# Altium schematic symbol library yu0316-NSC_LDO.SchLib: 2590 symbols (part 19 of 64)
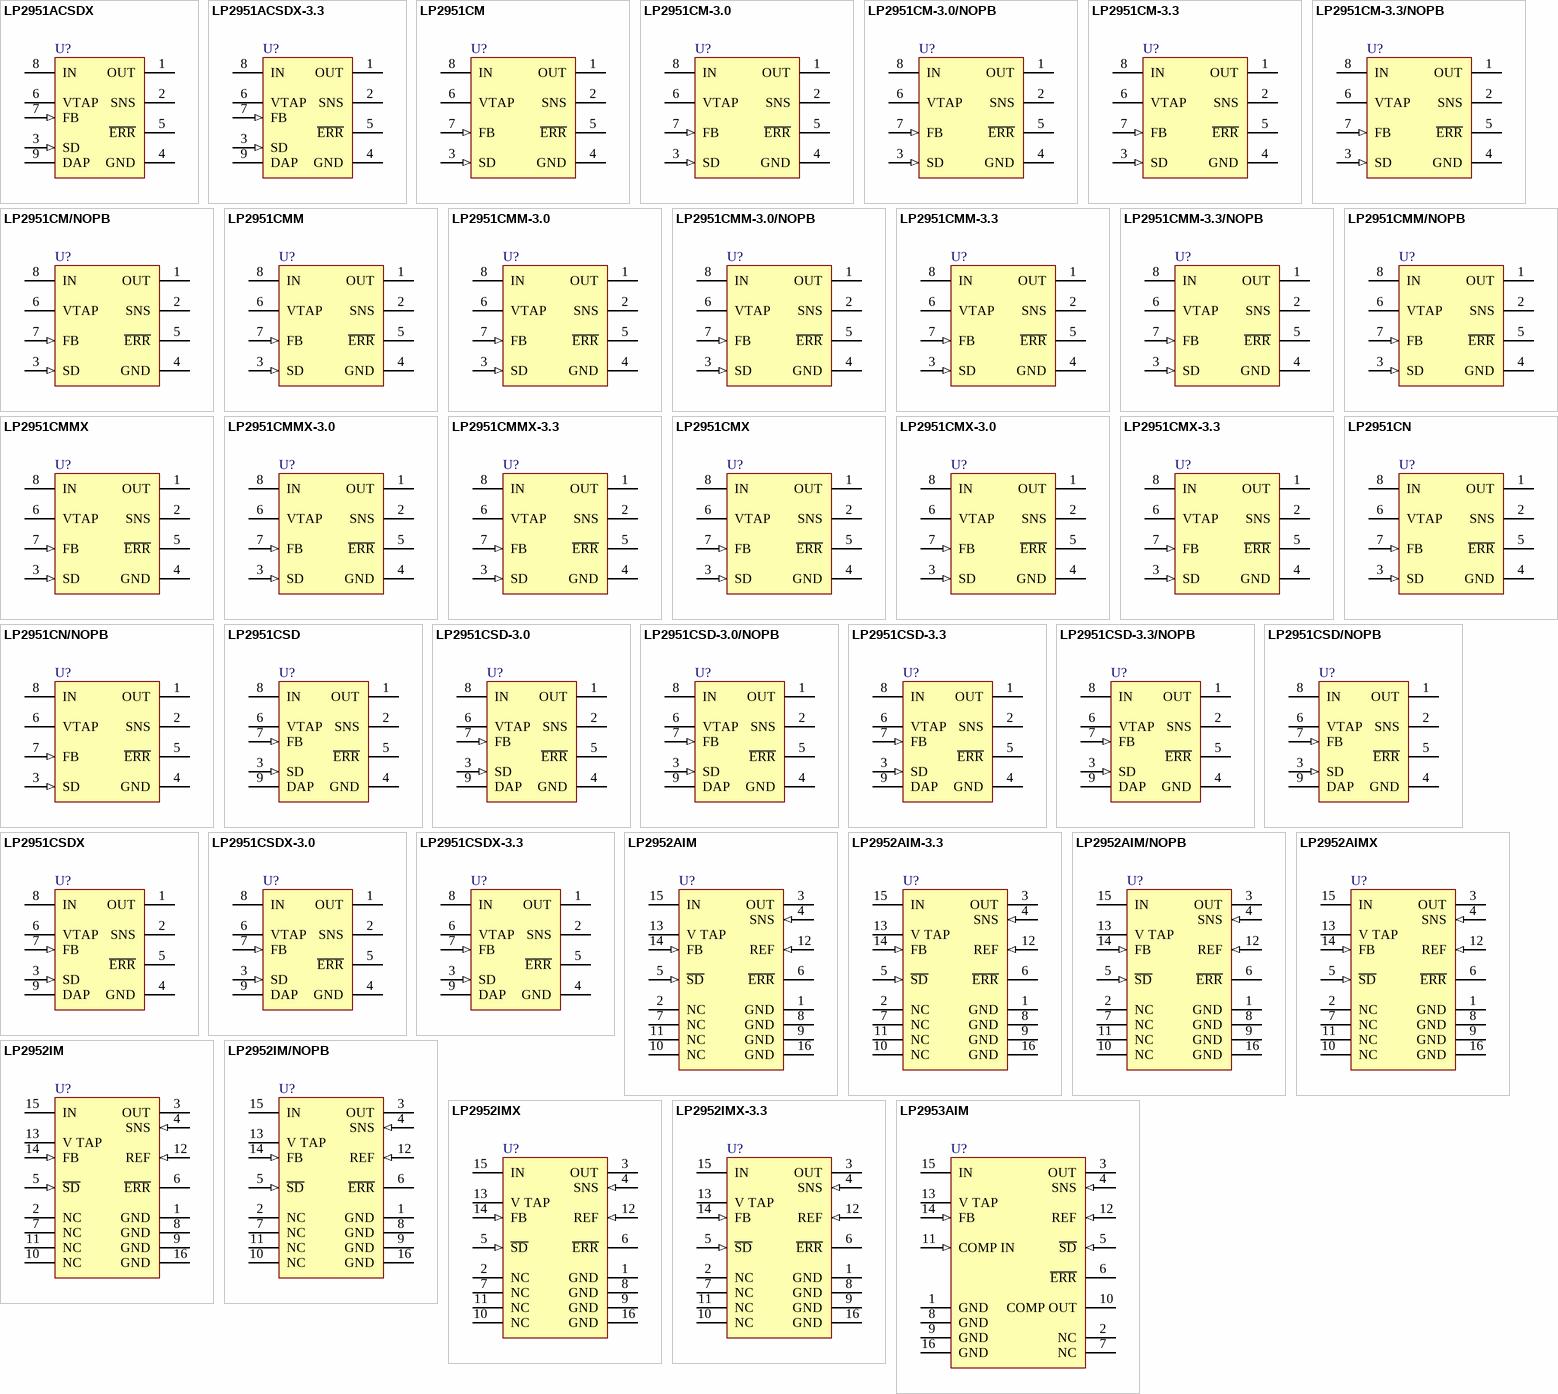
[diagram p83: symbols LP2951ACSDX to LP2953AIM]

## LP2951CN
designator U?
Series of Adjustable Micropower Voltage Regulators, 8-pin MDIP; PartNumber: LP2951CN; Manufacturer: National Semiconductor; PackageTopMarking: NSUZXYTTE#*LP*2951CN; PowerWise: N; CompType: LDO IC; Published: 4-Dec-2008; LatestRevisionDate: 07-Sep-2009; LatestRevisionNote: Bar removed from pin 3; DatasheetVersion: Jun-2009; PackageVersion: revG, May-2006; PackageReference: N08E; Publisher: Altium Limited; PackageDescription: MDIP, .365 x .250 x .130in, 8 Lead, .100in Pitch; Supplier 1: Farnell; Supplier Part Number 1: 9489320; RoHS: N; PinCount: 8; Code_JEDEC: MS-001-BA; ComponentLink1Description: LP2951 Datasheet; ComponentLink1URL: http://www.national.com/ds/LP/LP2951.pdf; ComponentLink2Description: LP2951 Web Page; ComponentLink2URL: http://www.national.com/pf/LP/LP2951.html; ComponentLink3Description: N08E Package Page; ComponentLink3URL: http://www.national.com/packaging/folders/n08e.html
footprint N08E (DIP, 8-Leads, Row Spacing 7.62mm, Pitch 2.54mm, Body 9.91x6.35mm)
pins: 1 OUT (power), 2 SNS, 3 SD (in), 4 GND (power), 5 ~{ERR} (oc), 6 VTAP, 7 FB (in), 8 IN (power)

## LP2951CN/NOPB
designator U?
Series of Adjustable Micropower Voltage Regulators, 8-pin MDIP, Pb-Free; PartNumber: LP2951CN/NOPB; Manufacturer: National Semiconductor; PackageTopMarking: NSUZXYTTE#*LP*2951CN; PowerWise: N; CompType: LDO IC; Published: 1-Mar-2010; DatasheetVersion: Jun-2009; PackageVersion: revG, May-2006; PackageReference: N08E; Publisher: Altium Limited; PackageDescription: MDIP, .365 x .250 x .130in, 8 Lead, .100in Pitch; Supplier 1: Digi-Key; Supplier Part Number 1: LP2951CN-ND; Supplier 2: Farnell; Supplier Part Number 2: 1179760; RoHS: Y; PinCount: 8; Code_JEDEC: MS-001-BA; ComponentLink1Description: LP2951 Datasheet; ComponentLink1URL: http://www.national.com/ds/LP/LP2951.pdf; ComponentLink2Description: LP2951 Web Page; ComponentLink2URL: http://www.national.com/pf/LP/LP2951.html; ComponentLink3Description: N08E Package Page; ComponentLink3URL: http://www.national.com/packaging/folders/n08e.html
footprint N08E (DIP, 8-Leads, Row Spacing 7.62mm, Pitch 2.54mm, Body 9.91x6.35mm)
pins: 1 OUT (power), 2 SNS, 3 SD (in), 4 GND (power), 5 ~{ERR} (oc), 6 VTAP, 7 FB (in), 8 IN (power)

## LP2951CSD
designator U?
Series of Adjustable Micropower Voltage Regulators, 8-pin LLP; PartNumber: LP2951CSD; Manufacturer: National Semiconductor; PackageTopMarking: NS*UZXYTT*2951ACB; PowerWise: N; CompType: LDO IC; Published: 4-Dec-2008; LatestRevisionDate: 07-Sep-2009; LatestRevisionNote: Bar removed from pin 3; DatasheetVersion: Jun-2009; PackageVersion: revA, Jun-2003; PackageReference: SDC08A; Publisher: Altium Limited; PackageDescription: LLP, Plastic, Dual, 4 x 4 x 0.8mm Body, 8 Lead, 0.8mm Pitch, No Pullback; Supplier 1: Farnell; Supplier Part Number 1: 1008042; RoHS: N; PinCount: 8; ComponentLink1Description: LP2951 Datasheet; ComponentLink1URL: http://www.national.com/ds/LP/LP2951.pdf; ComponentLink2Description: LP2951 Web Page; ComponentLink2URL: http://www.national.com/pf/LP/LP2951.html; ComponentLink3Description: SDC08A Package Page; ComponentLink3URL: http://www.national.com/packaging/folders/sdc08a.html
footprint SDC08A (SON, 8-Leads, Body 4x4mm, Pitch 0.8mm, NSC Recommended)
pins: 1 OUT (power), 2 SNS, 3 SD (in), 4 GND (power), 5 ~{ERR} (oc), 6 VTAP, 7 FB (in), 8 IN (power), 9 DAP (power)

## LP2951CSD-3.0
designator U?
Series of Adjustable Micropower Voltage Regulators, 8-pin LLP; PartNumber: LP2951CSD-3.0; Manufacturer: National Semiconductor; PackageTopMarking: NS*UZXYTT*51AC30B; PowerWise: N; CompType: LDO IC; Published: 4-Dec-2008; LatestRevisionDate: 07-Sep-2009; LatestRevisionNote: Bar removed from pin 3; DatasheetVersion: Jun-2009; PackageVersion: revA, Jun-2003; PackageReference: SDC08A; Publisher: Altium Limited; PackageDescription: LLP, Plastic, Dual, 4 x 4 x 0.8mm Body, 8 Lead, 0.8mm Pitch, No Pullback; RoHS: N; PinCount: 8; ComponentLink1Description: LP2951 Datasheet; ComponentLink1URL: http://www.national.com/ds/LP/LP2951.pdf; ComponentLink2Description: LP2951 Web Page; ComponentLink2URL: http://www.national.com/pf/LP/LP2951.html; ComponentLink3Description: SDC08A Package Page; ComponentLink3URL: http://www.national.com/packaging/folders/sdc08a.html
footprint SDC08A (SON, 8-Leads, Body 4x4mm, Pitch 0.8mm, NSC Recommended)
pins: 1 OUT (power), 2 SNS, 3 SD (in), 4 GND (power), 5 ~{ERR} (oc), 6 VTAP, 7 FB (in), 8 IN (power), 9 DAP (power)

## LP2951CSD-3.0/NOPB
designator U?
Series of Adjustable Micropower Voltage Regulators, 8-pin LLP, Pb-Free; PartNumber: LP2951CSD-3.0/NOPB; Manufacturer: National Semiconductor; PackageTopMarking: NS*UZXYTT*51AC30B; PowerWise: N; CompType: LDO IC; Published: 1-Mar-2010; DatasheetVersion: Jun-2009; PackageVersion: revA, Jun-2003; PackageReference: SDC08A; Publisher: Altium Limited; PackageDescription: LLP, Plastic, Dual, 4 x 4 x 0.8mm Body, 8 Lead, 0.8mm Pitch, No Pullback; Supplier 1: Digi-Key; Supplier Part Number 1: LP2951CSD-3.0-ND; RoHS: Y; PinCount: 8; ComponentLink1Description: LP2951 Datasheet; ComponentLink1URL: http://www.national.com/ds/LP/LP2951.pdf; ComponentLink2Description: LP2951 Web Page; ComponentLink2URL: http://www.national.com/pf/LP/LP2951.html; ComponentLink3Description: SDC08A Package Page; ComponentLink3URL: http://www.national.com/packaging/folders/sdc08a.html
footprint SDC08A (SON, 8-Leads, Body 4x4mm, Pitch 0.8mm, NSC Recommended)
pins: 1 OUT (power), 2 SNS, 3 SD (in), 4 GND (power), 5 ~{ERR} (oc), 6 VTAP, 7 FB (in), 8 IN (power), 9 DAP (power)

## LP2951CSD-3.3
designator U?
Series of Adjustable Micropower Voltage Regulators, 8-pin LLP; PartNumber: LP2951CSD-3.3; Manufacturer: National Semiconductor; PackageTopMarking: NS*UZXYTT*51AC33B; PowerWise: N; CompType: LDO IC; Published: 4-Dec-2008; LatestRevisionDate: 07-Sep-2009; LatestRevisionNote: Bar removed from pin 3; DatasheetVersion: Jun-2009; PackageVersion: revA, Jun-2003; PackageReference: SDC08A; Publisher: Altium Limited; PackageDescription: LLP, Plastic, Dual, 4 x 4 x 0.8mm Body, 8 Lead, 0.8mm Pitch, No Pullback; Supplier 1: Farnell; Supplier Part Number 1: 1008044; RoHS: N; PinCount: 8; ComponentLink1Description: LP2951 Datasheet; ComponentLink1URL: http://www.national.com/ds/LP/LP2951.pdf; ComponentLink2Description: LP2951 Web Page; ComponentLink2URL: http://www.national.com/pf/LP/LP2951.html; ComponentLink3Description: SDC08A Package Page; ComponentLink3URL: http://www.national.com/packaging/folders/sdc08a.html
footprint SDC08A (SON, 8-Leads, Body 4x4mm, Pitch 0.8mm, NSC Recommended)
pins: 1 OUT (power), 2 SNS, 3 SD (in), 4 GND (power), 5 ~{ERR} (oc), 6 VTAP, 7 FB (in), 8 IN (power), 9 DAP (power)

## LP2951CSD-3.3/NOPB
designator U?
Series of Adjustable Micropower Voltage Regulators, 8-pin LLP, Pb-Free; PartNumber: LP2951CSD-3.3/NOPB; Manufacturer: National Semiconductor; PackageTopMarking: NS*UZXYTT*51AC33B; PowerWise: N; CompType: LDO IC; Published: 1-Mar-2010; DatasheetVersion: Jun-2009; PackageVersion: revA, Jun-2003; PackageReference: SDC08A; Publisher: Altium Limited; PackageDescription: LLP, Plastic, Dual, 4 x 4 x 0.8mm Body, 8 Lead, 0.8mm Pitch, No Pullback; Supplier 1: Digi-Key; Supplier Part Number 1: LP2951CSD-3.3-ND; RoHS: Y; PinCount: 8; ComponentLink1Description: LP2951 Datasheet; ComponentLink1URL: http://www.national.com/ds/LP/LP2951.pdf; ComponentLink2Description: LP2951 Web Page; ComponentLink2URL: http://www.national.com/pf/LP/LP2951.html; ComponentLink3Description: SDC08A Package Page; ComponentLink3URL: http://www.national.com/packaging/folders/sdc08a.html
footprint SDC08A (SON, 8-Leads, Body 4x4mm, Pitch 0.8mm, NSC Recommended)
pins: 1 OUT (power), 2 SNS, 3 SD (in), 4 GND (power), 5 ~{ERR} (oc), 6 VTAP, 7 FB (in), 8 IN (power), 9 DAP (power)

## LP2951CSD/NOPB
designator U?
Series of Adjustable Micropower Voltage Regulators, 8-pin LLP, Pb-Free; PartNumber: LP2951CSD/NOPB; Manufacturer: National Semiconductor; PackageTopMarking: NS*UZXYTT*2951ACB; PowerWise: N; CompType: LDO IC; Published: 1-Mar-2010; DatasheetVersion: Jun-2009; PackageVersion: revA, Jun-2003; PackageReference: SDC08A; Publisher: Altium Limited; PackageDescription: LLP, Plastic, Dual, 4 x 4 x 0.8mm Body, 8 Lead, 0.8mm Pitch, No Pullback; Supplier 1: Digi-Key; Supplier Part Number 1: LP2951CSD-ND; RoHS: Y; PinCount: 8; ComponentLink1Description: LP2951 Datasheet; ComponentLink1URL: http://www.national.com/ds/LP/LP2951.pdf; ComponentLink2Description: LP2951 Web Page; ComponentLink2URL: http://www.national.com/pf/LP/LP2951.html; ComponentLink3Description: SDC08A Package Page; ComponentLink3URL: http://www.national.com/packaging/folders/sdc08a.html
footprint SDC08A (SON, 8-Leads, Body 4x4mm, Pitch 0.8mm, NSC Recommended)
pins: 1 OUT (power), 2 SNS, 3 SD (in), 4 GND (power), 5 ~{ERR} (oc), 6 VTAP, 7 FB (in), 8 IN (power), 9 DAP (power)

## LP2951CSDX
designator U?
Series of Adjustable Micropower Voltage Regulators, 8-pin LLP; PartNumber: LP2951CSDX; Manufacturer: National Semiconductor; PackageTopMarking: NS*UZXYTT*2951ACB; PowerWise: N; CompType: LDO IC; Published: 1-Mar-2010; DatasheetVersion: Jun-2009; PackageVersion: revA, Jun-2003; PackageReference: SDC08A; Publisher: Altium Limited; PackageDescription: LLP, Plastic, Dual, 4 x 4 x 0.8mm Body, 8 Lead, 0.8mm Pitch, No Pullback; RoHS: N; PinCount: 8; ComponentLink1Description: LP2951 Datasheet; ComponentLink1URL: http://www.national.com/ds/LP/LP2951.pdf; ComponentLink2Description: LP2951 Web Page; ComponentLink2URL: http://www.national.com/pf/LP/LP2951.html; ComponentLink3Description: SDC08A Package Page; ComponentLink3URL: http://www.national.com/packaging/folders/sdc08a.html
footprint SDC08A (SON, 8-Leads, Body 4x4mm, Pitch 0.8mm, NSC Recommended)
pins: 1 OUT (power), 2 SNS, 3 SD (in), 4 GND (power), 5 ~{ERR} (oc), 6 VTAP, 7 FB (in), 8 IN (power), 9 DAP (power)

## LP2951CSDX-3.0
designator U?
Series of Adjustable Micropower Voltage Regulators, 8-pin LLP; PartNumber: LP2951CSDX-3.0; Manufacturer: National Semiconductor; PackageTopMarking: NS*UZXYTT*51AC30B; PowerWise: N; CompType: LDO IC; Published: 1-Mar-2010; DatasheetVersion: Jun-2009; PackageVersion: revA, Jun-2003; PackageReference: SDC08A; Publisher: Altium Limited; PackageDescription: LLP, Plastic, Dual, 4 x 4 x 0.8mm Body, 8 Lead, 0.8mm Pitch, No Pullback; RoHS: N; PinCount: 8; ComponentLink1Description: LP2951 Datasheet; ComponentLink1URL: http://www.national.com/ds/LP/LP2951.pdf; ComponentLink2Description: LP2951 Web Page; ComponentLink2URL: http://www.national.com/pf/LP/LP2951.html; ComponentLink3Description: SDC08A Package Page; ComponentLink3URL: http://www.national.com/packaging/folders/sdc08a.html
footprint SDC08A (SON, 8-Leads, Body 4x4mm, Pitch 0.8mm, NSC Recommended)
pins: 1 OUT (power), 2 SNS, 3 SD (in), 4 GND (power), 5 ~{ERR} (oc), 6 VTAP, 7 FB (in), 8 IN (power), 9 DAP (power)

## LP2951CSDX-3.3
designator U?
Series of Adjustable Micropower Voltage Regulators, 8-pin LLP; PartNumber: LP2951CSDX-3.3; Manufacturer: National Semiconductor; PackageTopMarking: NS*UZXYTT*51AC33B; PowerWise: N; CompType: LDO IC; Published: 1-Mar-2010; DatasheetVersion: Jun-2009; PackageVersion: revA, Jun-2003; PackageReference: SDC08A; Publisher: Altium Limited; PackageDescription: LLP, Plastic, Dual, 4 x 4 x 0.8mm Body, 8 Lead, 0.8mm Pitch, No Pullback; RoHS: N; PinCount: 8; ComponentLink1Description: LP2951 Datasheet; ComponentLink1URL: http://www.national.com/ds/LP/LP2951.pdf; ComponentLink2Description: LP2951 Web Page; ComponentLink2URL: http://www.national.com/pf/LP/LP2951.html; ComponentLink3Description: SDC08A Package Page; ComponentLink3URL: http://www.national.com/packaging/folders/sdc08a.html
footprint SDC08A (SON, 8-Leads, Body 4x4mm, Pitch 0.8mm, NSC Recommended)
pins: 1 OUT (power), 2 SNS, 3 SD (in), 4 GND (power), 5 ~{ERR} (oc), 6 VTAP, 7 FB (in), 8 IN (power), 9 DAP (power)

## LP2952AIM
designator U?
Adjustable Micropower Low-Dropout Voltage Regulator, 16-pin Narrow SOIC; PartNumber: LP2952AIM; Manufacturer: National Semiconductor; PackageTopMarking: NSUZXYTTE#*LP2952AIM; PowerWise: N; CompType: LDO IC; Published: 4-Dec-2008; DatasheetVersion: Mar-2005; PackageVersion: revJ, Aug-1995; PackageReference: M16A; Publisher: Altium Limited; PackageDescription: Molded Package, SO, .150in Wide, 16 Lead; Supplier 1: Farnell; Supplier Part Number 1: 955840; RoHS: N; PinCount: 16; Code_JEDEC: MS-012-AC; Code_IPC: SOIC127P600-16; ComponentLink1Description: LP2952A Datasheet; ComponentLink1URL: http://www.national.com/ds/LP/LP2952.pdf; ComponentLink2Description: LP2952A Web Page; ComponentLink2URL: http://www.national.com/pf/LP/LP2952A.html; ComponentLink3Description: M16A Package Page; ComponentLink3URL: http://www.national.com/packaging/folders/m16a.html
footprint M16A_N (SOIC, 16-Leads, Body 9.9x3.9mm, Pitch 1.27mm, IPC Medium Density)
footprint M16A_L (SOIC, 16-Leads, Body 9.9x3.9mm, Pitch 1.27mm, IPC High Density)
footprint M16A_M (SOIC, 16-Leads, Body 9.9x3.9mm, Pitch 1.27mm, IPC Low Density)
pins: 1 GND (power), 2 NC, 3 OUT (power), 4 SNS (in), 5 ~{SD} (in), 6 ~{ERR} (oc), 7 NC, 8 GND (power), 9 GND (power), 10 NC, 11 NC, 12 REF (in), 13 V TAP, 14 FB (in), 15 IN (power), 16 GND (power)

## LP2952AIM-3.3
designator U?
Adjustable Micropower Low-Dropout Voltage Regulator, 16-pin Narrow SOIC; PartNumber: LP2952AIM-3.3; Manufacturer: National Semiconductor; PackageTopMarking: NSUZXYTTE#*LP2952AIM*-3.3; PowerWise: N; CompType: LDO IC; Published: 4-Dec-2008; DatasheetVersion: Mar-2005; PackageVersion: revJ, Aug-1995; PackageReference: M16A; Publisher: Altium Limited; PackageDescription: Molded Package, SO, .150in Wide, 16 Lead; Supplier 1: Farnell; Supplier Part Number 1: 955851; RoHS: N; PinCount: 16; Code_JEDEC: MS-012-AC; Code_IPC: SOIC127P600-16; ComponentLink1Description: LP2952A Datasheet; ComponentLink1URL: http://www.national.com/ds/LP/LP2952.pdf; ComponentLink2Description: LP2952A Web Page; ComponentLink2URL: http://www.national.com/pf/LP/LP2952A.html; ComponentLink3Description: M16A Package Page; ComponentLink3URL: http://www.national.com/packaging/folders/m16a.html
footprint M16A_N (SOIC, 16-Leads, Body 9.9x3.9mm, Pitch 1.27mm, IPC Medium Density)
footprint M16A_L (SOIC, 16-Leads, Body 9.9x3.9mm, Pitch 1.27mm, IPC High Density)
footprint M16A_M (SOIC, 16-Leads, Body 9.9x3.9mm, Pitch 1.27mm, IPC Low Density)
pins: 1 GND (power), 2 NC, 3 OUT (power), 4 SNS (in), 5 ~{SD} (in), 6 ~{ERR} (oc), 7 NC, 8 GND (power), 9 GND (power), 10 NC, 11 NC, 12 REF (in), 13 V TAP, 14 FB (in), 15 IN (power), 16 GND (power)

## LP2952AIM/NOPB
designator U?
Adjustable Micropower Low-Dropout Voltage Regulator, 16-pin Narrow SOIC, Pb-Free; PartNumber: LP2952AIM/NOPB; Manufacturer: National Semiconductor; PackageTopMarking: NSUZXYTTE#*LP2952AIM; PowerWise: N; CompType: LDO IC; Published: 1-Mar-2010; DatasheetVersion: Mar-2005; PackageVersion: revJ, Aug-1995; PackageReference: M16A; Publisher: Altium Limited; PackageDescription: Molded Package, SO, .150in Wide, 16 Lead; Supplier 1: Digi-Key; Supplier Part Number 1: LP2952AIM-ND; RoHS: Y; PinCount: 16; Code_JEDEC: MS-012-AC; Code_IPC: SOIC127P600-16; ComponentLink1Description: LP2952A Datasheet; ComponentLink1URL: http://www.national.com/ds/LP/LP2952.pdf; ComponentLink2Description: LP2952A Web Page; ComponentLink2URL: http://www.national.com/pf/LP/LP2952A.html; ComponentLink3Description: M16A Package Page; ComponentLink3URL: http://www.national.com/packaging/folders/m16a.html
footprint M16A_N (SOIC, 16-Leads, Body 9.9x3.9mm, Pitch 1.27mm, IPC Medium Density)
footprint M16A_L (SOIC, 16-Leads, Body 9.9x3.9mm, Pitch 1.27mm, IPC High Density)
footprint M16A_M (SOIC, 16-Leads, Body 9.9x3.9mm, Pitch 1.27mm, IPC Low Density)
pins: 1 GND (power), 2 NC, 3 OUT (power), 4 SNS (in), 5 ~{SD} (in), 6 ~{ERR} (oc), 7 NC, 8 GND (power), 9 GND (power), 10 NC, 11 NC, 12 REF (in), 13 V TAP, 14 FB (in), 15 IN (power), 16 GND (power)

## LP2952AIMX
designator U?
Adjustable Micropower Low-Dropout Voltage Regulator, 16-pin Narrow SOIC; PartNumber: LP2952AIMX; Manufacturer: National Semiconductor; PackageTopMarking: NSUZXYTTE#*LP2952AIM; PowerWise: N; CompType: LDO IC; Published: 1-Mar-2010; DatasheetVersion: Mar-2005; PackageVersion: revJ, Aug-1995; PackageReference: M16A; Publisher: Altium Limited; PackageDescription: Molded Package, SO, .150in Wide, 16 Lead; RoHS: N; PinCount: 16; Code_JEDEC: MS-012-AC; Code_IPC: SOIC127P600-16; ComponentLink1Description: LP2952A Datasheet; ComponentLink1URL: http://www.national.com/ds/LP/LP2952.pdf; ComponentLink2Description: LP2952A Web Page; ComponentLink2URL: http://www.national.com/pf/LP/LP2952A.html; ComponentLink3Description: M16A Package Page; ComponentLink3URL: http://www.national.com/packaging/folders/m16a.html
footprint M16A_N (SOIC, 16-Leads, Body 9.9x3.9mm, Pitch 1.27mm, IPC Medium Density)
footprint M16A_L (SOIC, 16-Leads, Body 9.9x3.9mm, Pitch 1.27mm, IPC High Density)
footprint M16A_M (SOIC, 16-Leads, Body 9.9x3.9mm, Pitch 1.27mm, IPC Low Density)
pins: 1 GND (power), 2 NC, 3 OUT (power), 4 SNS (in), 5 ~{SD} (in), 6 ~{ERR} (oc), 7 NC, 8 GND (power), 9 GND (power), 10 NC, 11 NC, 12 REF (in), 13 V TAP, 14 FB (in), 15 IN (power), 16 GND (power)

## LP2952IM
designator U?
Adjustable Micropower Low-Dropout Voltage Regulator, 16-pin Narrow SOIC; PartNumber: LP2952IM; Manufacturer: National Semiconductor; PackageTopMarking: NSUZXYTTE#*LP2952IM; PowerWise: N; CompType: LDO IC; Published: 4-Dec-2008; DatasheetVersion: Mar-2005; PackageVersion: revJ, Aug-1995; PackageReference: M16A; Publisher: Altium Limited; PackageDescription: Molded Package, SO, .150in Wide, 16 Lead; Supplier 1: Farnell; Supplier Part Number 1: 1215215; RoHS: N; PinCount: 16; Code_JEDEC: MS-012-AC; Code_IPC: SOIC127P600-16; ComponentLink1Description: LP2952 Datasheet; ComponentLink1URL: http://www.national.com/ds/LP/LP2952.pdf; ComponentLink2Description: LP2952 Web Page; ComponentLink2URL: http://www.national.com/pf/LP/LP2952.html; ComponentLink3Description: M16A Package Page; ComponentLink3URL: http://www.national.com/packaging/folders/m16a.html
footprint M16A_N (SOIC, 16-Leads, Body 9.9x3.9mm, Pitch 1.27mm, IPC Medium Density)
footprint M16A_L (SOIC, 16-Leads, Body 9.9x3.9mm, Pitch 1.27mm, IPC High Density)
footprint M16A_M (SOIC, 16-Leads, Body 9.9x3.9mm, Pitch 1.27mm, IPC Low Density)
pins: 1 GND (power), 2 NC, 3 OUT (power), 4 SNS (in), 5 ~{SD} (in), 6 ~{ERR} (oc), 7 NC, 8 GND (power), 9 GND (power), 10 NC, 11 NC, 12 REF (in), 13 V TAP, 14 FB (in), 15 IN (power), 16 GND (power)

## LP2952IM/NOPB
designator U?
Adjustable Micropower Low-Dropout Voltage Regulator, 16-pin Narrow SOIC, Pb-Free; PartNumber: LP2952IM/NOPB; Manufacturer: National Semiconductor; PackageTopMarking: NSUZXYTTE#*LP2952IM; PowerWise: N; CompType: LDO IC; Published: 1-Mar-2010; DatasheetVersion: Mar-2005; PackageVersion: revJ, Aug-1995; PackageReference: M16A; Publisher: Altium Limited; PackageDescription: Molded Package, SO, .150in Wide, 16 Lead; Supplier 1: Digi-Key; Supplier Part Number 1: LP2952IM-ND; Supplier 2: Farnell; Supplier Part Number 2: 1191129; RoHS: Y; PinCount: 16; Code_JEDEC: MS-012-AC; Code_IPC: SOIC127P600-16; ComponentLink1Description: LP2952 Datasheet; ComponentLink1URL: http://www.national.com/ds/LP/LP2952.pdf; ComponentLink2Description: LP2952 Web Page; ComponentLink2URL: http://www.national.com/pf/LP/LP2952.html; ComponentLink3Description: M16A Package Page; ComponentLink3URL: http://www.national.com/packaging/folders/m16a.html
footprint M16A_N (SOIC, 16-Leads, Body 9.9x3.9mm, Pitch 1.27mm, IPC Medium Density)
footprint M16A_L (SOIC, 16-Leads, Body 9.9x3.9mm, Pitch 1.27mm, IPC High Density)
footprint M16A_M (SOIC, 16-Leads, Body 9.9x3.9mm, Pitch 1.27mm, IPC Low Density)
pins: 1 GND (power), 2 NC, 3 OUT (power), 4 SNS (in), 5 ~{SD} (in), 6 ~{ERR} (oc), 7 NC, 8 GND (power), 9 GND (power), 10 NC, 11 NC, 12 REF (in), 13 V TAP, 14 FB (in), 15 IN (power), 16 GND (power)

## LP2952IMX
designator U?
Adjustable Micropower Low-Dropout Voltage Regulator, 16-pin Narrow SOIC; PartNumber: LP2952IMX; Manufacturer: National Semiconductor; PackageTopMarking: NSUZXYTTE#*LP2952IM; PowerWise: N; CompType: LDO IC; Published: 1-Mar-2010; DatasheetVersion: Mar-2005; PackageVersion: revJ, Aug-1995; PackageReference: M16A; Publisher: Altium Limited; PackageDescription: Molded Package, SO, .150in Wide, 16 Lead; RoHS: N; PinCount: 16; Code_JEDEC: MS-012-AC; Code_IPC: SOIC127P600-16; ComponentLink1Description: LP2952 Datasheet; ComponentLink1URL: http://www.national.com/ds/LP/LP2952.pdf; ComponentLink2Description: LP2952 Web Page; ComponentLink2URL: http://www.national.com/pf/LP/LP2952.html; ComponentLink3Description: M16A Package Page; ComponentLink3URL: http://www.national.com/packaging/folders/m16a.html
footprint M16A_N (SOIC, 16-Leads, Body 9.9x3.9mm, Pitch 1.27mm, IPC Medium Density)
footprint M16A_L (SOIC, 16-Leads, Body 9.9x3.9mm, Pitch 1.27mm, IPC High Density)
footprint M16A_M (SOIC, 16-Leads, Body 9.9x3.9mm, Pitch 1.27mm, IPC Low Density)
pins: 1 GND (power), 2 NC, 3 OUT (power), 4 SNS (in), 5 ~{SD} (in), 6 ~{ERR} (oc), 7 NC, 8 GND (power), 9 GND (power), 10 NC, 11 NC, 12 REF (in), 13 V TAP, 14 FB (in), 15 IN (power), 16 GND (power)

## LP2952IMX-3.3
designator U?
Adjustable Micropower Low-Dropout Voltage Regulator, 16-pin Narrow SOIC; PartNumber: LP2952IMX-3.3; Manufacturer: National Semiconductor; PackageTopMarking: NSUZXYTTE#*LP2952IM*-3.3; PowerWise: N; CompType: LDO IC; Published: 1-Mar-2010; DatasheetVersion: Mar-2005; PackageVersion: revJ, Aug-1995; PackageReference: M16A; Publisher: Altium Limited; PackageDescription: Molded Package, SO, .150in Wide, 16 Lead; RoHS: N; PinCount: 16; Code_JEDEC: MS-012-AC; Code_IPC: SOIC127P600-16; ComponentLink1Description: LP2952 Datasheet; ComponentLink1URL: http://www.national.com/ds/LP/LP2952.pdf; ComponentLink2Description: LP2952 Web Page; ComponentLink2URL: http://www.national.com/pf/LP/LP2952.html; ComponentLink3Description: M16A Package Page; ComponentLink3URL: http://www.national.com/packaging/folders/m16a.html
footprint M16A_N (SOIC, 16-Leads, Body 9.9x3.9mm, Pitch 1.27mm, IPC Medium Density)
footprint M16A_L (SOIC, 16-Leads, Body 9.9x3.9mm, Pitch 1.27mm, IPC High Density)
footprint M16A_M (SOIC, 16-Leads, Body 9.9x3.9mm, Pitch 1.27mm, IPC Low Density)
pins: 1 GND (power), 2 NC, 3 OUT (power), 4 SNS (in), 5 ~{SD} (in), 6 ~{ERR} (oc), 7 NC, 8 GND (power), 9 GND (power), 10 NC, 11 NC, 12 REF (in), 13 V TAP, 14 FB (in), 15 IN (power), 16 GND (power)

## LP2953AIM
designator U?
Adjustable Micropower Low-Dropout Voltage Regulator, 16-pin Narrow SOIC; PartNumber: LP2953AIM; Manufacturer: National Semiconductor; PackageTopMarking: NSUZXYTTE#*LP2953AIM; PowerWise: N; CompType: LDO IC; Published: 4-Dec-2008; DatasheetVersion: Mar-2005; PackageVersion: revJ, Aug-1995; PackageReference: M16A; Publisher: Altium Limited; PackageDescription: Molded Package, SO, .150in Wide, 16 Lead; RoHS: N; PinCount: 16; Code_JEDEC: MS-012-AC; Code_IPC: SOIC127P600-16; ComponentLink1Description: LP2953A Datasheet; ComponentLink1URL: http://www.national.com/ds/LP/LP2953.pdf; ComponentLink2Description: LP2953A Web Page; ComponentLink2URL: http://www.national.com/pf/LP/LP2953A.html; ComponentLink3Description: M16A Package Page; ComponentLink3URL: http://www.national.com/packaging/folders/m16a.html
footprint M16A_N (SOIC, 16-Leads, Body 9.9x3.9mm, Pitch 1.27mm, IPC Medium Density)
footprint M16A_L (SOIC, 16-Leads, Body 9.9x3.9mm, Pitch 1.27mm, IPC High Density)
footprint M16A_M (SOIC, 16-Leads, Body 9.9x3.9mm, Pitch 1.27mm, IPC Low Density)
pins: 1 GND (power), 2 NC, 3 OUT (power), 4 SNS (in), 5 ~{SD} (in), 6 ~{ERR} (oc), 7 NC, 8 GND (power), 9 GND, 10 COMP OUT (oc), 11 COMP IN (in), 12 REF (in), 13 V TAP, 14 FB (in), 15 IN (power), 16 GND (power)

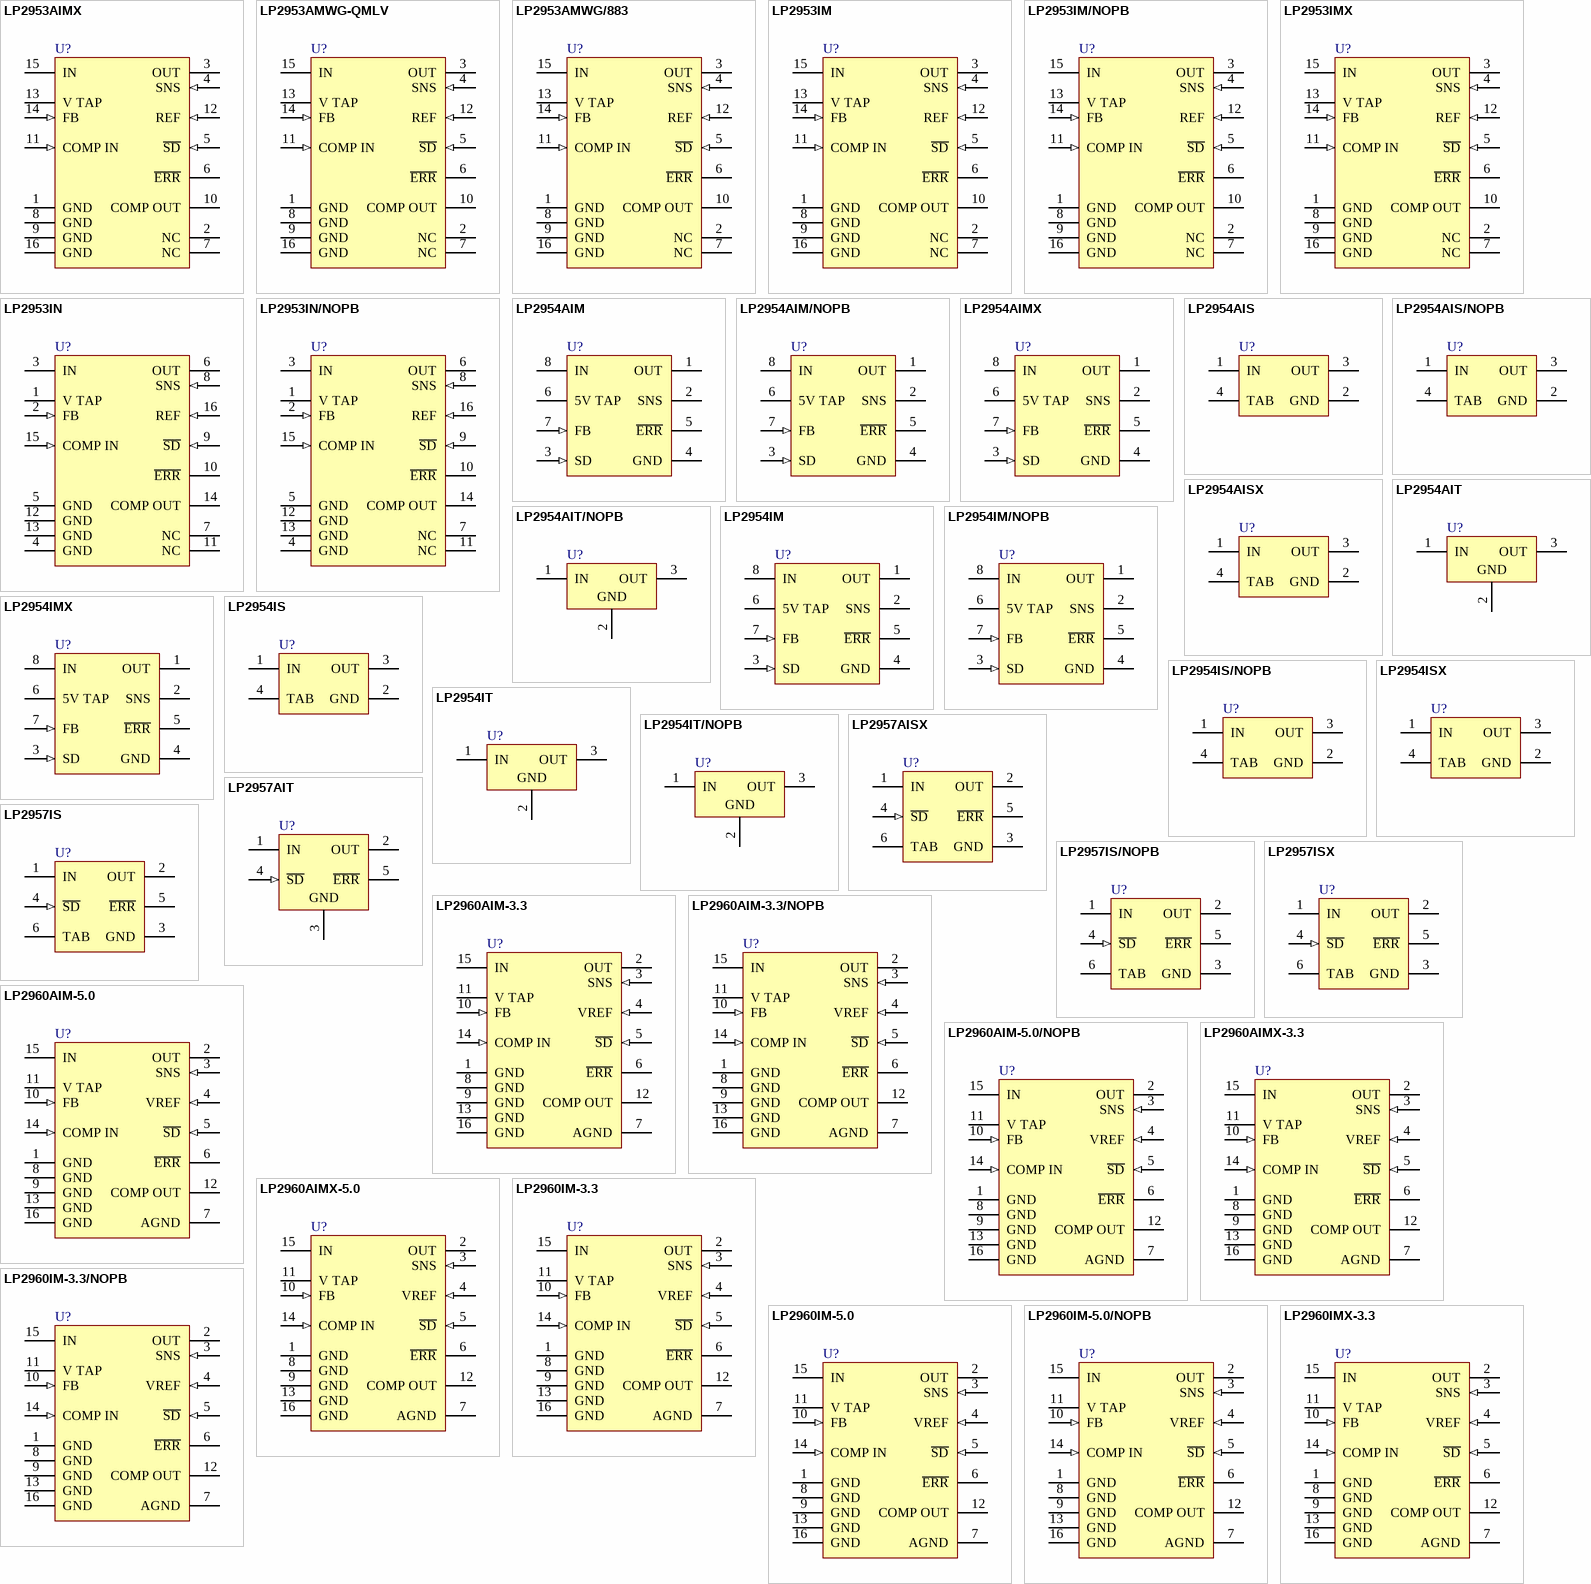
[diagram p20: symbols LP2953AIMX to LP2960IMX-3.3]

## LP2953AIMX
designator U?
Adjustable Micropower Low-Dropout Voltage Regulator, 16-pin Narrow SOIC; PartNumber: LP2953AIMX; Manufacturer: National Semiconductor; PackageTopMarking: NSUZXYTTE#*LP2953AIM; PowerWise: N; CompType: LDO IC; Published: 1-Mar-2010; DatasheetVersion: Mar-2005; PackageVersion: revJ, Aug-1995; PackageReference: M16A; Publisher: Altium Limited; PackageDescription: Molded Package, SO, .150in Wide, 16 Lead; RoHS: N; PinCount: 16; Code_JEDEC: MS-012-AC; Code_IPC: SOIC127P600-16; ComponentLink1Description: LP2953A Datasheet; ComponentLink1URL: http://www.national.com/ds/LP/LP2953.pdf; ComponentLink2Description: LP2953A Web Page; ComponentLink2URL: http://www.national.com/pf/LP/LP2953A.html; ComponentLink3Description: M16A Package Page; ComponentLink3URL: http://www.national.com/packaging/folders/m16a.html
footprint M16A_N (SOIC, 16-Leads, Body 9.9x3.9mm, Pitch 1.27mm, IPC Medium Density)
footprint M16A_L (SOIC, 16-Leads, Body 9.9x3.9mm, Pitch 1.27mm, IPC High Density)
footprint M16A_M (SOIC, 16-Leads, Body 9.9x3.9mm, Pitch 1.27mm, IPC Low Density)
pins: 1 GND (power), 2 NC, 3 OUT (power), 4 SNS (in), 5 ~{SD} (in), 6 ~{ERR} (oc), 7 NC, 8 GND (power), 9 GND, 10 COMP OUT (oc), 11 COMP IN (in), 12 REF (in), 13 V TAP, 14 FB (in), 15 IN (power), 16 GND (power)

## LP2953AMWG-QMLV
designator U?
Adjustable Micropower Low-Dropout Voltage Regulator, 16-pin CerPACK; PartNumber: LP2953AMWG-QMLV; Manufacturer: National Semiconductor; PackageTopMarking: NSZSSXXYYA*LP2953AMWG-*QV Q 5962-*9233601VXA; PowerWise: N; CompType: LDO IC; High-Reliability: Y; Published: 4-Dec-2008; DatasheetVersion: Mar-2005; PackageVersion: revE, Jul-2007; PackageReference: WG16A; Publisher: Altium Limited; PackageDescription: Cerpack, .390 x .250 x .070in, 16 Lead, .050in Pitch, Gull Wing; RoHS: N; PinCount: 16; ComponentLink1Description: LP2953A Datasheet; ComponentLink1URL: http://www.national.com/ds/LP/LP2953A.pdf; ComponentLink2Description: LP2953A Web Page; ComponentLink2URL: http://www.national.com/pf/LP/LP2953A.html; ComponentLink3Description: WG16A Package Page; ComponentLink3URL: http://www.national.com/packaging/folders/wg16a.html
footprint WG16A_N (CERPACK, 16-Leads, Body 9.9x6.5mm, Pitch 1.27mm, IPC Medium Density)
footprint WG16A_L (CERPACK, 16-Leads, Body 9.9x6.5mm, Pitch 1.27mm, IPC High Density)
footprint WG16A_M (CERPACK, 16-Leads, Body 9.9x6.5mm, Pitch 1.27mm, IPC Low Density)
pins: 1 GND (power), 2 NC, 3 OUT (power), 4 SNS (in), 5 ~{SD} (in), 6 ~{ERR} (oc), 7 NC, 8 GND (power), 9 GND, 10 COMP OUT (oc), 11 COMP IN (in), 12 REF (in), 13 V TAP, 14 FB (in), 15 IN (power), 16 GND (power)

## LP2953AMWG/883
designator U?
Adjustable Micropower Low-Dropout Voltage Regulator, 16-pin CerPACK; PartNumber: LP2953AMWG/883; Manufacturer: National Semiconductor; PackageTopMarking: NSZSSXXYYA*5962-9233601*QXA Q LP2953*AMWG/883; PowerWise: N; CompType: LDO IC; High-Reliability: Y; Published: 4-Dec-2008; DatasheetVersion: Mar-2005; PackageVersion: revE, Jul-2007; PackageReference: WG16A; Publisher: Altium Limited; PackageDescription: Cerpack, .390 x .250 x .070in, 16 Lead, .050in Pitch, Gull Wing; RoHS: N; PinCount: 16; ComponentLink1Description: LP2953A Datasheet; ComponentLink1URL: http://www.national.com/ds/LP/LP2953A.pdf; ComponentLink2Description: LP2953A Web Page; ComponentLink2URL: http://www.national.com/pf/LP/LP2953A.html; ComponentLink3Description: WG16A Package Page; ComponentLink3URL: http://www.national.com/packaging/folders/wg16a.html
footprint WG16A_N (CERPACK, 16-Leads, Body 9.9x6.5mm, Pitch 1.27mm, IPC Medium Density)
footprint WG16A_L (CERPACK, 16-Leads, Body 9.9x6.5mm, Pitch 1.27mm, IPC High Density)
footprint WG16A_M (CERPACK, 16-Leads, Body 9.9x6.5mm, Pitch 1.27mm, IPC Low Density)
pins: 1 GND (power), 2 NC, 3 OUT (power), 4 SNS (in), 5 ~{SD} (in), 6 ~{ERR} (oc), 7 NC, 8 GND (power), 9 GND, 10 COMP OUT (oc), 11 COMP IN (in), 12 REF (in), 13 V TAP, 14 FB (in), 15 IN (power), 16 GND (power)

## LP2953IM
designator U?
Adjustable Micropower Low-Dropout Voltage Regulator, 16-pin Narrow SOIC; PartNumber: LP2953IM; Manufacturer: National Semiconductor; PackageTopMarking: NSUZXYTTE#*LP2953IM; PowerWise: N; CompType: LDO IC; Published: 4-Dec-2008; DatasheetVersion: Mar-2005; PackageVersion: revJ, Aug-1995; PackageReference: M16A; Publisher: Altium Limited; PackageDescription: Molded Package, SO, .150in Wide, 16 Lead; Supplier 1: Farnell; Supplier Part Number 1: 955954; RoHS: N; PinCount: 16; Code_JEDEC: MS-012-AC; Code_IPC: SOIC127P600-16; ComponentLink1Description: LP2953 Datasheet; ComponentLink1URL: http://www.national.com/ds/LP/LP2953.pdf; ComponentLink2Description: LP2953 Web Page; ComponentLink2URL: http://www.national.com/pf/LP/LP2953.html; ComponentLink3Description: M16A Package Page; ComponentLink3URL: http://www.national.com/packaging/folders/m16a.html
footprint M16A_N (SOIC, 16-Leads, Body 9.9x3.9mm, Pitch 1.27mm, IPC Medium Density)
footprint M16A_L (SOIC, 16-Leads, Body 9.9x3.9mm, Pitch 1.27mm, IPC High Density)
footprint M16A_M (SOIC, 16-Leads, Body 9.9x3.9mm, Pitch 1.27mm, IPC Low Density)
pins: 1 GND (power), 2 NC, 3 OUT (power), 4 SNS (in), 5 ~{SD} (in), 6 ~{ERR} (oc), 7 NC, 8 GND (power), 9 GND, 10 COMP OUT (oc), 11 COMP IN (in), 12 REF (in), 13 V TAP, 14 FB (in), 15 IN (power), 16 GND (power)

## LP2953IM/NOPB
designator U?
Adjustable Micropower Low-Dropout Voltage Regulator, 16-pin Narrow SOIC, Pb-Free; PartNumber: LP2953IM/NOPB; Manufacturer: National Semiconductor; PackageTopMarking: NSUZXYTTE#*LP2953IM; PowerWise: N; CompType: LDO IC; Published: 1-Mar-2010; DatasheetVersion: Mar-2005; PackageVersion: revJ, Aug-1995; PackageReference: M16A; Publisher: Altium Limited; PackageDescription: Molded Package, SO, .150in Wide, 16 Lead; Supplier 1: Digi-Key; Supplier Part Number 1: LP2953IM-ND; Supplier 2: Farnell; Supplier Part Number 2: 1685667; RoHS: Y; PinCount: 16; Code_JEDEC: MS-012-AC; Code_IPC: SOIC127P600-16; ComponentLink1Description: LP2953 Datasheet; ComponentLink1URL: http://www.national.com/ds/LP/LP2953.pdf; ComponentLink2Description: LP2953 Web Page; ComponentLink2URL: http://www.national.com/pf/LP/LP2953.html; ComponentLink3Description: M16A Package Page; ComponentLink3URL: http://www.national.com/packaging/folders/m16a.html
footprint M16A_N (SOIC, 16-Leads, Body 9.9x3.9mm, Pitch 1.27mm, IPC Medium Density)
footprint M16A_L (SOIC, 16-Leads, Body 9.9x3.9mm, Pitch 1.27mm, IPC High Density)
footprint M16A_M (SOIC, 16-Leads, Body 9.9x3.9mm, Pitch 1.27mm, IPC Low Density)
pins: 1 GND (power), 2 NC, 3 OUT (power), 4 SNS (in), 5 ~{SD} (in), 6 ~{ERR} (oc), 7 NC, 8 GND (power), 9 GND, 10 COMP OUT (oc), 11 COMP IN (in), 12 REF (in), 13 V TAP, 14 FB (in), 15 IN (power), 16 GND (power)

## LP2953IMX
designator U?
Adjustable Micropower Low-Dropout Voltage Regulator, 16-pin Narrow SOIC; PartNumber: LP2953IMX; Manufacturer: National Semiconductor; PackageTopMarking: NSUZXYTTE#*LP2953IM; PowerWise: N; CompType: LDO IC; Published: 1-Mar-2010; DatasheetVersion: Mar-2005; PackageVersion: revJ, Aug-1995; PackageReference: M16A; Publisher: Altium Limited; PackageDescription: Molded Package, SO, .150in Wide, 16 Lead; RoHS: N; PinCount: 16; Code_JEDEC: MS-012-AC; Code_IPC: SOIC127P600-16; ComponentLink1Description: LP2953 Datasheet; ComponentLink1URL: http://www.national.com/ds/LP/LP2953.pdf; ComponentLink2Description: LP2953 Web Page; ComponentLink2URL: http://www.national.com/pf/LP/LP2953.html; ComponentLink3Description: M16A Package Page; ComponentLink3URL: http://www.national.com/packaging/folders/m16a.html
footprint M16A_N (SOIC, 16-Leads, Body 9.9x3.9mm, Pitch 1.27mm, IPC Medium Density)
footprint M16A_L (SOIC, 16-Leads, Body 9.9x3.9mm, Pitch 1.27mm, IPC High Density)
footprint M16A_M (SOIC, 16-Leads, Body 9.9x3.9mm, Pitch 1.27mm, IPC Low Density)
pins: 1 GND (power), 2 NC, 3 OUT (power), 4 SNS (in), 5 ~{SD} (in), 6 ~{ERR} (oc), 7 NC, 8 GND (power), 9 GND, 10 COMP OUT (oc), 11 COMP IN (in), 12 REF (in), 13 V TAP, 14 FB (in), 15 IN (power), 16 GND (power)

## LP2953IN
designator U?
Adjustable Micropower Low-Dropout Voltage Regulator, 16-pin MDIP; PartNumber: LP2953IN; Manufacturer: National Semiconductor; PackageTopMarking: NSUZXYYTTE#*LP2953IN; PowerWise: N; CompType: LDO IC; Published: 4-Dec-2008; DatasheetVersion: Mar-2005; PackageVersion: revB, Feb-1989; PackageReference: N16G; Publisher: Altium Limited; PackageDescription: Molded Dip (N), 16 Lead, 15 Mil Power Package; RoHS: N; PinCount: 16; ComponentLink1Description: LP2953 Datasheet; ComponentLink1URL: http://www.national.com/ds/LP/LP2953.pdf; ComponentLink2Description: LP2953 Web Page; ComponentLink2URL: http://www.national.com/pf/LP/LP2953.html; ComponentLink3Description: N16G Package Page; ComponentLink3URL: http://www.national.com/packaging/folders/n16g.html
footprint N16G (DIP, 16-Leads, Row Spacing 7.62mm, Pitch 2.54mm, Body 21.76x6.35mm)
pins: 1 V TAP, 2 FB (in), 3 IN (power), 4 GND (power), 5 GND (power), 6 OUT (power), 7 NC, 8 SNS (in), 9 ~{SD} (in), 10 ~{ERR} (oc), 11 NC, 12 GND (power), 13 GND, 14 COMP OUT (oc), 15 COMP IN (in), 16 REF (in)

## LP2953IN/NOPB
designator U?
Adjustable Micropower Low-Dropout Voltage Regulator, 16-pin MDIP, Pb-Free; PartNumber: LP2953IN/NOPB; Manufacturer: National Semiconductor; PackageTopMarking: NSUZXYYTTE#*LP2953IN; PowerWise: N; CompType: LDO IC; Published: 1-Mar-2010; DatasheetVersion: Mar-2005; PackageVersion: revB, Feb-1989; PackageReference: N16G; Publisher: Altium Limited; PackageDescription: Molded Dip (N), 16 Lead, 15 Mil Power Package; Supplier 1: Digi-Key; Supplier Part Number 1: LP2953IN-ND; Supplier 2: Farnell; Supplier Part Number 2: 1685668; RoHS: Y; PinCount: 16; ComponentLink1Description: LP2953 Datasheet; ComponentLink1URL: http://www.national.com/ds/LP/LP2953.pdf; ComponentLink2Description: LP2953 Web Page; ComponentLink2URL: http://www.national.com/pf/LP/LP2953.html; ComponentLink3Description: N16G Package Page; ComponentLink3URL: http://www.national.com/packaging/folders/n16g.html
footprint N16G (DIP, 16-Leads, Row Spacing 7.62mm, Pitch 2.54mm, Body 21.76x6.35mm)
pins: 1 V TAP, 2 FB (in), 3 IN (power), 4 GND (power), 5 GND (power), 6 OUT (power), 7 NC, 8 SNS (in), 9 ~{SD} (in), 10 ~{ERR} (oc), 11 NC, 12 GND (power), 13 GND, 14 COMP OUT (oc), 15 COMP IN (in), 16 REF (in)

## LP2954AIM
designator U?
5V Micropower Low-Dropout Voltage Regulator, 8-pin Narrow SOIC; PartNumber: LP2954AIM; Manufacturer: National Semiconductor; PackageTopMarking: NSZXTT*LP295*4AIM; PowerWise: N; CompType: LDO IC; Published: 4-Dec-2008; DatasheetVersion: Apr-2005; PackageVersion: revM, May-2009; PackageReference: M08A; Publisher: Altium Limited; PackageDescription: SOIC Narrow, 4.9 x 3.9 x 1.45mm, 8 Lead, 1.27mm Pitch; RoHS: N; PinCount: 8; Code_JEDEC: MS-012-AA; Code_IPC: SOIC127P600-8; ComponentLink1Description: LP2954A Datasheet; ComponentLink1URL: http://www.national.com/ds/LP/LP2954A.pdf; ComponentLink2Description: LP2954A Web Page; ComponentLink2URL: http://www.national.com/pf/LP/LP2954A.html; ComponentLink3Description: M08A Package Page; ComponentLink3URL: http://www.national.com/packaging/folders/m08a.html
footprint M08A_N (SOIC, 8-Leads, Body 4.9x3.9mm, Pitch 1.27mm, IPC Medium Density)
footprint M08A_L (SOIC, 8-Leads, Body 4.9x3.9mm, Pitch 1.27mm, IPC High Density)
footprint M08A_M (SOIC, 8-Leads, Body 4.9x3.9mm, Pitch 1.27mm, IPC Low Density)
pins: 1 OUT (power), 2 SNS, 3 SD (in), 4 GND (power), 5 ~{ERR} (oc), 6 5V TAP, 7 FB (in), 8 IN (power)

## LP2954AIM/NOPB
designator U?
5V Micropower Low-Dropout Voltage Regulator, 8-pin Narrow SOIC, Pb-Free; PartNumber: LP2954AIM/NOPB; Manufacturer: National Semiconductor; PackageTopMarking: NSZXTT*LP295*4AIM; PowerWise: N; CompType: LDO IC; Published: 1-Mar-2010; DatasheetVersion: Apr-2005; PackageVersion: revM, May-2009; PackageReference: M08A; Publisher: Altium Limited; PackageDescription: SOIC Narrow, 4.9 x 3.9 x 1.45mm, 8 Lead, 1.27mm Pitch; Supplier 1: Digi-Key; Supplier Part Number 1: LP2954AIM-ND; Supplier 2: Farnell; Supplier Part Number 2: 1685669; RoHS: Y; PinCount: 8; Code_JEDEC: MS-012-AA; Code_IPC: SOIC127P600-8; ComponentLink1Description: LP2954A Datasheet; ComponentLink1URL: http://www.national.com/ds/LP/LP2954A.pdf; ComponentLink2Description: LP2954A Web Page; ComponentLink2URL: http://www.national.com/pf/LP/LP2954A.html; ComponentLink3Description: M08A Package Page; ComponentLink3URL: http://www.national.com/packaging/folders/m08a.html
footprint M08A_N (SOIC, 8-Leads, Body 4.9x3.9mm, Pitch 1.27mm, IPC Medium Density)
footprint M08A_L (SOIC, 8-Leads, Body 4.9x3.9mm, Pitch 1.27mm, IPC High Density)
footprint M08A_M (SOIC, 8-Leads, Body 4.9x3.9mm, Pitch 1.27mm, IPC Low Density)
pins: 1 OUT (power), 2 SNS, 3 SD (in), 4 GND (power), 5 ~{ERR} (oc), 6 5V TAP, 7 FB (in), 8 IN (power)

## LP2954AIMX
designator U?
5V Micropower Low-Dropout Voltage Regulator, 8-pin Narrow SOIC; PartNumber: LP2954AIMX; Manufacturer: National Semiconductor; PackageTopMarking: NSZXTT*LP295*4AIM; PowerWise: N; CompType: LDO IC; Published: 1-Mar-2010; DatasheetVersion: Apr-2005; PackageVersion: revM, May-2009; PackageReference: M08A; Publisher: Altium Limited; PackageDescription: SOIC Narrow, 4.9 x 3.9 x 1.45mm, 8 Lead, 1.27mm Pitch; RoHS: N; PinCount: 8; Code_JEDEC: MS-012-AA; Code_IPC: SOIC127P600-8; ComponentLink1Description: LP2954A Datasheet; ComponentLink1URL: http://www.national.com/ds/LP/LP2954A.pdf; ComponentLink2Description: LP2954A Web Page; ComponentLink2URL: http://www.national.com/pf/LP/LP2954A.html; ComponentLink3Description: M08A Package Page; ComponentLink3URL: http://www.national.com/packaging/folders/m08a.html
footprint M08A_N (SOIC, 8-Leads, Body 4.9x3.9mm, Pitch 1.27mm, IPC Medium Density)
footprint M08A_L (SOIC, 8-Leads, Body 4.9x3.9mm, Pitch 1.27mm, IPC High Density)
footprint M08A_M (SOIC, 8-Leads, Body 4.9x3.9mm, Pitch 1.27mm, IPC Low Density)
pins: 1 OUT (power), 2 SNS, 3 SD (in), 4 GND (power), 5 ~{ERR} (oc), 6 5V TAP, 7 FB (in), 8 IN (power)

## LP2954AIS
designator U?
5V Micropower Low-Dropout Voltage Regulator, 3-pin TO-263; PartNumber: LP2954AIS; Manufacturer: National Semiconductor; PackageTopMarking: NSUZXYTTE#*LP2954AIS; PowerWise: N; CompType: LDO IC; Published: 4-Dec-2008; DatasheetVersion: Apr-2005; PackageVersion: revF, Apr-2005; PackageReference: TS3B; Publisher: Altium Limited; PackageDescription: TO-263, Molded, .400 x .390 x .180in, 3 Lead, .1in Pitch, Surface Mount; RoHS: N; PinCount: 3; Code_JEDEC: MO-169-AA; ComponentLink1Description: LP2954A Datasheet; ComponentLink1URL: http://www.national.com/ds/LP/LP2954A.pdf; ComponentLink2Description: LP2954A Web Page; ComponentLink2URL: http://www.national.com/pf/LP/LP2954A.html; ComponentLink3Description: TS3B Package Page; ComponentLink3URL: http://www.national.com/packaging/folders/ts3b.html
footprint TS3B_N (D2-PAK, 4-Leads, Body 8.6x10.2mm, Pitch 2.54mm, Lead Span 14.2mm, IPC Medium Density)
footprint TS3B_L (D2-PAK, 4-Leads, Body 8.6x10.2mm, Pitch 2.54mm, Lead Span 14.2mm, IPC High Density)
footprint TS3B_M (D2-PAK, 4-Leads, Body 8.6x10.2mm, Pitch 2.54mm, Lead Span 14.2mm, IPC Low Density)
pins: 1 IN (power), 2 GND (power), 3 OUT (power), 4 TAB (power)

## LP2954AIS/NOPB
designator U?
5V Micropower Low-Dropout Voltage Regulator, 3-pin TO-263, Pb-Free; PartNumber: LP2954AIS/NOPB; Manufacturer: National Semiconductor; PackageTopMarking: NSUZXYTTE#*LP2954AIS; PowerWise: N; CompType: LDO IC; Published: 1-Mar-2010; DatasheetVersion: Apr-2005; PackageVersion: revF, Apr-2005; PackageReference: TS3B; Publisher: Altium Limited; PackageDescription: TO-263, Molded, .400 x .390 x .180in, 3 Lead, .1in Pitch, Surface Mount; Supplier 1: Digi-Key; Supplier Part Number 1: LP2954AIS-ND; Supplier 2: Farnell; Supplier Part Number 2: 1685547; RoHS: Y; PinCount: 3; Code_JEDEC: MO-169-AA; ComponentLink1Description: LP2954A Datasheet; ComponentLink1URL: http://www.national.com/ds/LP/LP2954A.pdf; ComponentLink2Description: LP2954A Web Page; ComponentLink2URL: http://www.national.com/pf/LP/LP2954A.html; ComponentLink3Description: TS3B Package Page; ComponentLink3URL: http://www.national.com/packaging/folders/ts3b.html
footprint TS3B_N (D2-PAK, 4-Leads, Body 8.6x10.2mm, Pitch 2.54mm, Lead Span 14.2mm, IPC Medium Density)
footprint TS3B_L (D2-PAK, 4-Leads, Body 8.6x10.2mm, Pitch 2.54mm, Lead Span 14.2mm, IPC High Density)
footprint TS3B_M (D2-PAK, 4-Leads, Body 8.6x10.2mm, Pitch 2.54mm, Lead Span 14.2mm, IPC Low Density)
pins: 1 IN (power), 2 GND (power), 3 OUT (power), 4 TAB (power)

## LP2954AISX
designator U?
5V Micropower Low-Dropout Voltage Regulator, 3-pin TO-263; PartNumber: LP2954AISX; Manufacturer: National Semiconductor; PackageTopMarking: NSUZXYTTE#*LP2954AIS; PowerWise: N; CompType: LDO IC; Published: 1-Mar-2010; DatasheetVersion: Apr-2005; PackageVersion: revF, Apr-2005; PackageReference: TS3B; Publisher: Altium Limited; PackageDescription: TO-263, Molded, .400 x .390 x .180in, 3 Lead, .1in Pitch, Surface Mount; RoHS: N; PinCount: 3; Code_JEDEC: MO-169-AA; ComponentLink1Description: LP2954A Datasheet; ComponentLink1URL: http://www.national.com/ds/LP/LP2954A.pdf; ComponentLink2Description: LP2954A Web Page; ComponentLink2URL: http://www.national.com/pf/LP/LP2954A.html; ComponentLink3Description: TS3B Package Page; ComponentLink3URL: http://www.national.com/packaging/folders/ts3b.html
footprint TS3B_N (D2-PAK, 4-Leads, Body 8.6x10.2mm, Pitch 2.54mm, Lead Span 14.2mm, IPC Medium Density)
footprint TS3B_L (D2-PAK, 4-Leads, Body 8.6x10.2mm, Pitch 2.54mm, Lead Span 14.2mm, IPC High Density)
footprint TS3B_M (D2-PAK, 4-Leads, Body 8.6x10.2mm, Pitch 2.54mm, Lead Span 14.2mm, IPC Low Density)
pins: 1 IN (power), 2 GND (power), 3 OUT (power), 4 TAB (power)

## LP2954AIT
designator U?
5V Micropower Low-Dropout Voltage Regulator, 3-pin TO-220; PartNumber: LP2954AIT; Manufacturer: National Semiconductor; PackageTopMarking: NSUZXYTTE#*LP2954AIT; PowerWise: N; CompType: LDO IC; Published: 4-Dec-2008; DatasheetVersion: Apr-2005; PackageVersion: revL, Jan-1992; PackageReference: T03B; Publisher: Altium Limited; PackageDescription: TO-220, Molded, 3 Lead, Straight; Supplier 1: Farnell; Supplier Part Number 1: 9494847; RoHS: N; PinCount: 3; ComponentLink1Description: LP2954A Datasheet; ComponentLink1URL: http://www.national.com/ds/LP/LP2954A.pdf; ComponentLink2Description: LP2954A Web Page; ComponentLink2URL: http://www.national.com/pf/LP/LP2954A.html; ComponentLink3Description: T03B Package Page; ComponentLink3URL: http://www.national.com/packaging/folders/t03b.html
footprint T03B (TO, Thru-Hole, Vertical, Heatsink Mounted; 3 In-Line Leads; Pitch 2.54 mm)
pins: 1 IN (power), 2 GND (power), 3 OUT (power)

## LP2954AIT/NOPB
designator U?
5V Micropower Low-Dropout Voltage Regulator, 3-pin TO-220, Pb-Free; PartNumber: LP2954AIT/NOPB; Manufacturer: National Semiconductor; PackageTopMarking: NSUZXYTTE#*LP2954AIT; PowerWise: N; CompType: LDO IC; Published: 1-Mar-2010; DatasheetVersion: Apr-2005; PackageVersion: revL, Jan-1992; PackageReference: T03B; Publisher: Altium Limited; PackageDescription: TO-220, Molded, 3 Lead, Straight; Supplier 1: Digi-Key; Supplier Part Number 1: LP2954AIT-ND; RoHS: Y; PinCount: 3; ComponentLink1Description: LP2954A Datasheet; ComponentLink1URL: http://www.national.com/ds/LP/LP2954A.pdf; ComponentLink2Description: LP2954A Web Page; ComponentLink2URL: http://www.national.com/pf/LP/LP2954A.html; ComponentLink3Description: T03B Package Page; ComponentLink3URL: http://www.national.com/packaging/folders/t03b.html
footprint T03B (TO, Thru-Hole, Vertical, Heatsink Mounted; 3 In-Line Leads; Pitch 2.54 mm)
pins: 1 IN (power), 2 GND (power), 3 OUT (power)

## LP2954IM
designator U?
5V Micropower Low-Dropout Voltage Regulator, 8-pin Narrow SOIC; PartNumber: LP2954IM; Manufacturer: National Semiconductor; PackageTopMarking: NSZXTT*LP29*54IM; PowerWise: N; CompType: LDO IC; Published: 4-Dec-2008; DatasheetVersion: Apr-2005; PackageVersion: revM, May-2009; PackageReference: M08A; Publisher: Altium Limited; PackageDescription: SOIC Narrow, 4.9 x 3.9 x 1.45mm, 8 Lead, 1.27mm Pitch; RoHS: N; PinCount: 8; Code_JEDEC: MS-012-AA; Code_IPC: SOIC127P600-8; ComponentLink1Description: LP2954 Datasheet; ComponentLink1URL: http://www.national.com/ds/LP/LP2954.pdf; ComponentLink2Description: LP2954 Web Page; ComponentLink2URL: http://www.national.com/pf/LP/LP2954.html; ComponentLink3Description: M08A Package Page; ComponentLink3URL: http://www.national.com/packaging/folders/m08a.html
footprint M08A_N (SOIC, 8-Leads, Body 4.9x3.9mm, Pitch 1.27mm, IPC Medium Density)
footprint M08A_L (SOIC, 8-Leads, Body 4.9x3.9mm, Pitch 1.27mm, IPC High Density)
footprint M08A_M (SOIC, 8-Leads, Body 4.9x3.9mm, Pitch 1.27mm, IPC Low Density)
pins: 1 OUT (power), 2 SNS, 3 SD (in), 4 GND (power), 5 ~{ERR} (oc), 6 5V TAP, 7 FB (in), 8 IN (power)

## LP2954IM/NOPB
designator U?
5V Micropower Low-Dropout Voltage Regulator, 8-pin Narrow SOIC, Pb-Free; PartNumber: LP2954IM/NOPB; Manufacturer: National Semiconductor; PackageTopMarking: NSZXTT*LP29*54IM; PowerWise: N; CompType: LDO IC; Published: 1-Mar-2010; DatasheetVersion: Apr-2005; PackageVersion: revM, May-2009; PackageReference: M08A; Publisher: Altium Limited; PackageDescription: SOIC Narrow, 4.9 x 3.9 x 1.45mm, 8 Lead, 1.27mm Pitch; Supplier 1: Digi-Key; Supplier Part Number 1: LP2954IM-ND; Supplier 2: Farnell; Supplier Part Number 2: 1685670; RoHS: Y; PinCount: 8; Code_JEDEC: MS-012-AA; Code_IPC: SOIC127P600-8; ComponentLink1Description: LP2954 Datasheet; ComponentLink1URL: http://www.national.com/ds/LP/LP2954.pdf; ComponentLink2Description: LP2954 Web Page; ComponentLink2URL: http://www.national.com/pf/LP/LP2954.html; ComponentLink3Description: M08A Package Page; ComponentLink3URL: http://www.national.com/packaging/folders/m08a.html
footprint M08A_N (SOIC, 8-Leads, Body 4.9x3.9mm, Pitch 1.27mm, IPC Medium Density)
footprint M08A_L (SOIC, 8-Leads, Body 4.9x3.9mm, Pitch 1.27mm, IPC High Density)
footprint M08A_M (SOIC, 8-Leads, Body 4.9x3.9mm, Pitch 1.27mm, IPC Low Density)
pins: 1 OUT (power), 2 SNS, 3 SD (in), 4 GND (power), 5 ~{ERR} (oc), 6 5V TAP, 7 FB (in), 8 IN (power)

## LP2954IMX
designator U?
5V Micropower Low-Dropout Voltage Regulator, 8-pin Narrow SOIC; PartNumber: LP2954IMX; Manufacturer: National Semiconductor; PackageTopMarking: NSZXTT*LP29*54IM; PowerWise: N; CompType: LDO IC; Published: 1-Mar-2010; DatasheetVersion: Apr-2005; PackageVersion: revM, May-2009; PackageReference: M08A; Publisher: Altium Limited; PackageDescription: SOIC Narrow, 4.9 x 3.9 x 1.45mm, 8 Lead, 1.27mm Pitch; RoHS: N; PinCount: 8; Code_JEDEC: MS-012-AA; Code_IPC: SOIC127P600-8; ComponentLink1Description: LP2954 Datasheet; ComponentLink1URL: http://www.national.com/ds/LP/LP2954.pdf; ComponentLink2Description: LP2954 Web Page; ComponentLink2URL: http://www.national.com/pf/LP/LP2954.html; ComponentLink3Description: M08A Package Page; ComponentLink3URL: http://www.national.com/packaging/folders/m08a.html
footprint M08A_N (SOIC, 8-Leads, Body 4.9x3.9mm, Pitch 1.27mm, IPC Medium Density)
footprint M08A_L (SOIC, 8-Leads, Body 4.9x3.9mm, Pitch 1.27mm, IPC High Density)
footprint M08A_M (SOIC, 8-Leads, Body 4.9x3.9mm, Pitch 1.27mm, IPC Low Density)
pins: 1 OUT (power), 2 SNS, 3 SD (in), 4 GND (power), 5 ~{ERR} (oc), 6 5V TAP, 7 FB (in), 8 IN (power)

## LP2954IS
designator U?
5V Micropower Low-Dropout Voltage Regulator, 3-pin TO-263; PartNumber: LP2954IS; Manufacturer: National Semiconductor; PackageTopMarking: NSUZXYTTE#*LP2954IS; PowerWise: N; CompType: LDO IC; Published: 4-Dec-2008; DatasheetVersion: Apr-2005; PackageVersion: revF, Apr-2005; PackageReference: TS3B; Publisher: Altium Limited; PackageDescription: TO-263, Molded, .400 x .390 x .180in, 3 Lead, .1in Pitch, Surface Mount; Supplier 1: Farnell; Supplier Part Number 1: 9494855; RoHS: N; PinCount: 3; Code_JEDEC: MO-169-AA; ComponentLink1Description: LP2954 Datasheet; ComponentLink1URL: http://www.national.com/ds/LP/LP2954.pdf; ComponentLink2Description: LP2954 Web Page; ComponentLink2URL: http://www.national.com/pf/LP/LP2954.html; ComponentLink3Description: TS3B Package Page; ComponentLink3URL: http://www.national.com/packaging/folders/ts3b.html
footprint TS3B_N (D2-PAK, 4-Leads, Body 8.6x10.2mm, Pitch 2.54mm, Lead Span 14.2mm, IPC Medium Density)
footprint TS3B_L (D2-PAK, 4-Leads, Body 8.6x10.2mm, Pitch 2.54mm, Lead Span 14.2mm, IPC High Density)
footprint TS3B_M (D2-PAK, 4-Leads, Body 8.6x10.2mm, Pitch 2.54mm, Lead Span 14.2mm, IPC Low Density)
pins: 1 IN (power), 2 GND (power), 3 OUT (power), 4 TAB (power)

## LP2954IS/NOPB
designator U?
5V Micropower Low-Dropout Voltage Regulator, 3-pin TO-263, Pb-Free; PartNumber: LP2954IS/NOPB; Manufacturer: National Semiconductor; PackageTopMarking: NSUZXYTTE#*LP2954IS; PowerWise: N; CompType: LDO IC; Published: 1-Mar-2010; DatasheetVersion: Apr-2005; PackageVersion: revF, Apr-2005; PackageReference: TS3B; Publisher: Altium Limited; PackageDescription: TO-263, Molded, .400 x .390 x .180in, 3 Lead, .1in Pitch, Surface Mount; Supplier 1: Digi-Key; Supplier Part Number 1: LP2954IS-ND; Supplier 2: Farnell; Supplier Part Number 2: 1694035; RoHS: Y; PinCount: 3; Code_JEDEC: MO-169-AA; ComponentLink1Description: LP2954 Datasheet; ComponentLink1URL: http://www.national.com/ds/LP/LP2954.pdf; ComponentLink2Description: LP2954 Web Page; ComponentLink2URL: http://www.national.com/pf/LP/LP2954.html; ComponentLink3Description: TS3B Package Page; ComponentLink3URL: http://www.national.com/packaging/folders/ts3b.html
footprint TS3B_N (D2-PAK, 4-Leads, Body 8.6x10.2mm, Pitch 2.54mm, Lead Span 14.2mm, IPC Medium Density)
footprint TS3B_L (D2-PAK, 4-Leads, Body 8.6x10.2mm, Pitch 2.54mm, Lead Span 14.2mm, IPC High Density)
footprint TS3B_M (D2-PAK, 4-Leads, Body 8.6x10.2mm, Pitch 2.54mm, Lead Span 14.2mm, IPC Low Density)
pins: 1 IN (power), 2 GND (power), 3 OUT (power), 4 TAB (power)